# Altium schematic symbol library SCH - CONNECTORS - SAMTEC - IPL1-103-XX-X-S-X.SCHLIB: 1 symbol
Pins are listed as number, name and electrical type; pins without a type are passive.

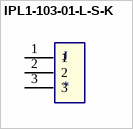
[diagram p0: symbol IPL1-103-01-L-S-K]

## IPL1-103-01-L-S-K
designator J
Connector Header Through Hole 3 position 0.100 (2.54mm); MP: IPL1-103-01-L-S-K; MF: Samtec; SnapEDA_Link: https://www.snapeda.com/parts/IPL1-103-01-L-S-K/Samtec/view-part/2893155/?ref=snap; Availability: Bad; Price: None; Toby_UK-Purchase-URL: https://snapeda.com/shop?store=Toby+UK&id=2893155; Package: None; Value: *
footprint SAMTEC_IPL1-103-01-L-S-K
pins: 1, 2, 3